# EAGLE library part ISP_PROGRAMMING_HEADER (library 000_CustomPartsMaster)
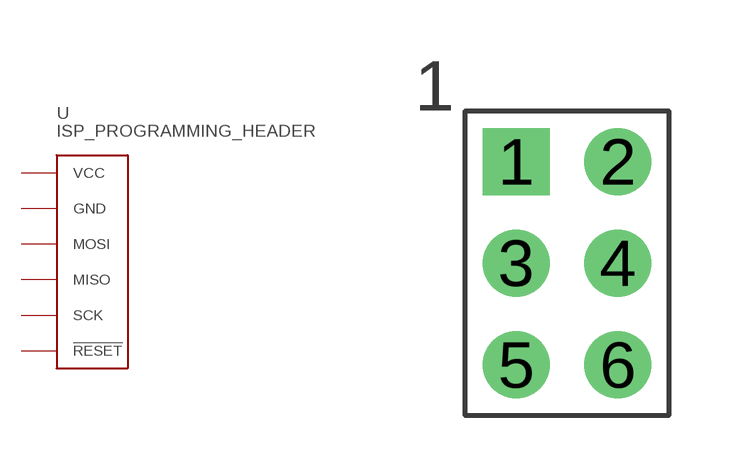
[diagram p15: symbol with the pads of 6PINHEADER_CORRECT; footprint 6PINHEADER_CORRECT]

Designator prefix -

## ISP_PROGRAMMING_HEADER  [6PINHEADER_CORRECT]
1  MISO
2  VCC
3  SCK
4  MOSI
5  !RESET
6  GND

## Footprint 6PINHEADER_CORRECT (pad centres in mm)
drill 1 pad 1.676 square: 1 0,0
drill 1 pad 1.676: 2 2.54,0; 3 0,-2.54; 4 2.54,-2.54; 5 0,-5.08; 6 2.54,-5.08